# Altium integrated library Vishay Draloric Ceramic Disc Capacitor.IntLib: 519 symbols (part 3 of 8)
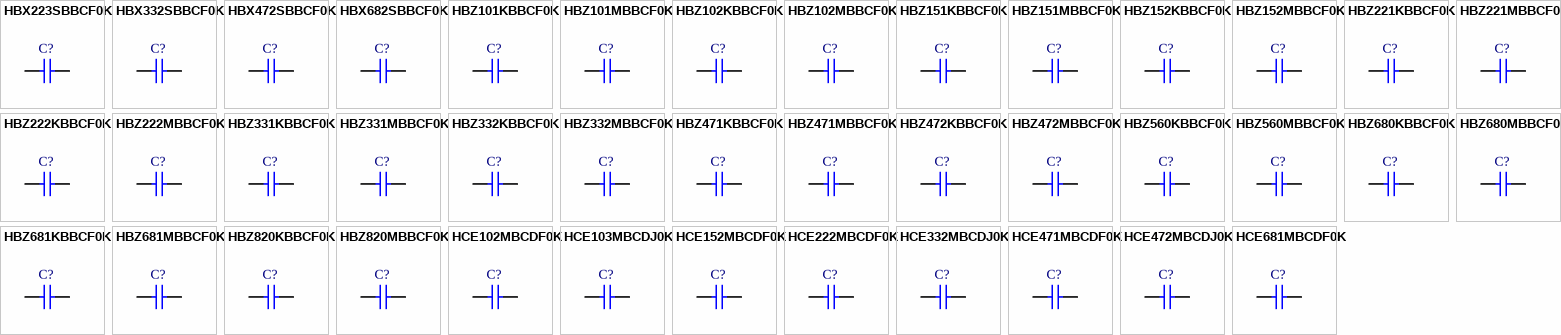
[diagram p14: symbols HBX223SBBCF0K to HCE681MBCDF0K]

## HBZ681KBBCF0K
designator C?
Ceramic High Voltage Disc Capacitor, Class 2: 680pF 2kV K 2000; Note: See Datasheet for other lead types & tolerances; Published: 17-Dec-2003; DatasheetDocument: 11-Dec-2001; PackageDocument: 2-Aug-2001; PackageReference: CAPRD7.5-9X3; Publisher: Altium Limited; ComponentLink1Description: Manufacturer Link; ComponentLink1URL: http://www.vishay.com/; ComponentLink2Description: Datasheet; ComponentLink2URL: http://www.vishay.com/docs/22161/h.pdf; Value: 680pF
footprint CAPRD7.5-9X3 (Capacitor, Ceramic, Thru-Hole, Disc; Body 9 x 3 mm (LxW max) Pin Spacing 7.5 mm (typ))
simulation model CAP (Capacitor)
signal-integrity model Cap
pins: 1, 2

## HBZ681MBBCF0K
designator C?
Ceramic High Voltage Disc Capacitor, Class 2: 680pF 2kV K 2000; Note: See Datasheet for other lead types & tolerances; Published: 17-Dec-2003; DatasheetDocument: 11-Dec-2001; PackageDocument: 2-Aug-2001; PackageReference: CAPRD7.5-9X3; Publisher: Altium Limited; ComponentLink1Description: Manufacturer Link; ComponentLink1URL: http://www.vishay.com/; ComponentLink2Description: Datasheet; ComponentLink2URL: http://www.vishay.com/docs/22161/h.pdf; Value: 680pF
footprint CAPRD7.5-9X3 (Capacitor, Ceramic, Thru-Hole, Disc; Body 9 x 3 mm (LxW max) Pin Spacing 7.5 mm (typ))
simulation model CAP (Capacitor)
signal-integrity model Cap
pins: 1, 2

## HBZ820KBBCF0K
designator C?
Ceramic High Voltage Disc Capacitor, Class 2: 82pF 2kV K 2000; Note: See Datasheet for other lead types & tolerances; Published: 17-Dec-2003; DatasheetDocument: 11-Dec-2001; PackageDocument: 2-Aug-2001; PackageReference: CAPRD7.5-7X3; Publisher: Altium Limited; ComponentLink1Description: Manufacturer Link; ComponentLink1URL: http://www.vishay.com/; ComponentLink2Description: Datasheet; ComponentLink2URL: http://www.vishay.com/docs/22161/h.pdf; Value: 82pF
footprint CAPRD7.5-7X3 (Capacitor, Ceramic, Thru-Hole, Disc; Body 7 x 3 mm (LxW max) Pin Spacing 7.5 mm (typ))
simulation model CAP (Capacitor)
signal-integrity model Cap
pins: 1, 2

## HBZ820MBBCF0K
designator C?
Ceramic High Voltage Disc Capacitor, Class 2: 82pF 2kV K 2000; Note: See Datasheet for other lead types & tolerances; Published: 17-Dec-2003; DatasheetDocument: 11-Dec-2001; PackageDocument: 2-Aug-2001; PackageReference: CAPRD7.5-7X3; Publisher: Altium Limited; ComponentLink1Description: Manufacturer Link; ComponentLink1URL: http://www.vishay.com/; ComponentLink2Description: Datasheet; ComponentLink2URL: http://www.vishay.com/docs/22161/h.pdf; Value: 82pF
footprint CAPRD7.5-7X3 (Capacitor, Ceramic, Thru-Hole, Disc; Body 7 x 3 mm (LxW max) Pin Spacing 7.5 mm (typ))
simulation model CAP (Capacitor)
signal-integrity model Cap
pins: 1, 2

## HCE102MBCDF0K
designator C?
Ceramic High Voltage Disc Capacitor, Class 2: 1000pF 3kV K 6000; Note: See Datasheet for other lead types; Value: 1nF; Published: 17-Dec-2003; DatasheetDocument: 11-Dec-2001; PackageDocument: 2-Aug-2001; PackageReference: CAPRD10-9X4; Publisher: Altium Limited; ComponentLink1Description: Manufacturer Link; ComponentLink1URL: http://www.vishay.com/; ComponentLink2Description: Datasheet; ComponentLink2URL: http://www.vishay.com/docs/22161/h.pdf
footprint CAPRD10-9X4 (Capacitor, Ceramic, Thru-Hole, Disc; Body 9 x 4 mm (LxW max) Pin Spacing 10 mm (typ))
simulation model CAP (Capacitor)
signal-integrity model Cap
pins: 1, 2

## HCE103MBCDJ0K
designator C?
Ceramic High Voltage Disc Capacitor, Class 2: 10nF 3kV K 6000; Note: See Datasheet for other lead types; Published: 17-Dec-2003; DatasheetDocument: 11-Dec-2001; PackageDocument: 2-Aug-2001; PackageReference: CAPRD10-25X4A; Publisher: Altium Limited; ComponentLink1Description: Manufacturer Link; ComponentLink1URL: http://www.vishay.com/; ComponentLink2Description: Datasheet; ComponentLink2URL: http://www.vishay.com/docs/22161/h.pdf; Value: 10nF
footprint CAPRD10-25X4A (Capacitor, Ceramic, Thru-Hole, Disc; Body 25 x 4 mm (LxW max) Pin Spacing 10 mm (typ))
simulation model CAP (Capacitor)
signal-integrity model Cap
pins: 1, 2

## HCE152MBCDF0K
designator C?
Ceramic High Voltage Disc Capacitor, Class 2: 1500pF 3kV K 6000; Note: See Datasheet for other lead types; Value: 1.5nF; Published: 17-Dec-2003; DatasheetDocument: 11-Dec-2001; PackageDocument: 2-Aug-2001; PackageReference: CAPRD10-11X4A; Publisher: Altium Limited; ComponentLink1Description: Manufacturer Link; ComponentLink1URL: http://www.vishay.com/; ComponentLink2Description: Datasheet; ComponentLink2URL: http://www.vishay.com/docs/22161/h.pdf
footprint CAPRD10-11X4A (Capacitor, Ceramic, Thru-Hole, Disc; Body 11 x 4 mm (LxW max) Pin Spacing 10 mm (typ))
simulation model CAP (Capacitor)
signal-integrity model Cap
pins: 1, 2

## HCE222MBCDF0K
designator C?
Ceramic High Voltage Disc Capacitor, Class 2: 2200pF 3kV K 6000; Note: See Datasheet for other lead types; Value: 2.2nF; Published: 17-Dec-2003; DatasheetDocument: 11-Dec-2001; PackageDocument: 2-Aug-2001; PackageReference: CAPRD10-11X4A; Publisher: Altium Limited; ComponentLink1Description: Manufacturer Link; ComponentLink1URL: http://www.vishay.com/; ComponentLink2Description: Datasheet; ComponentLink2URL: http://www.vishay.com/docs/22161/h.pdf
footprint CAPRD10-11X4A (Capacitor, Ceramic, Thru-Hole, Disc; Body 11 x 4 mm (LxW max) Pin Spacing 10 mm (typ))
simulation model CAP (Capacitor)
signal-integrity model Cap
pins: 1, 2

## HCE332MBCDJ0K
designator C?
Ceramic High Voltage Disc Capacitor, Class 2: 3300pF 3kV K 6000; Note: See Datasheet for other lead types; Value: 3.3nF; Published: 17-Dec-2003; DatasheetDocument: 11-Dec-2001; PackageDocument: 2-Aug-2001; PackageReference: CAPRD10-15X4A; Publisher: Altium Limited; ComponentLink1Description: Manufacturer Link; ComponentLink1URL: http://www.vishay.com/; ComponentLink2Description: Datasheet; ComponentLink2URL: http://www.vishay.com/docs/22161/h.pdf
footprint CAPRD10-15X4A (Capacitor, Ceramic, Thru-Hole, Disc; Body 15 x 4 mm (LxW max) Pin Spacing 10 mm (typ))
simulation model CAP (Capacitor)
signal-integrity model Cap
pins: 1, 2

## HCE471MBCDF0K
designator C?
Ceramic High Voltage Disc Capacitor, Class 2: 470pF 3kV K 6000; Note: See Datasheet for other lead types; Published: 17-Dec-2003; DatasheetDocument: 11-Dec-2001; PackageDocument: 2-Aug-2001; PackageReference: CAPRD10-7X4A; Publisher: Altium Limited; ComponentLink1Description: Manufacturer Link; ComponentLink1URL: http://www.vishay.com/; ComponentLink2Description: Datasheet; ComponentLink2URL: http://www.vishay.com/docs/22161/h.pdf; Value: 470pF
footprint CAPRD10-7X4A (Capacitor, Ceramic, Thru-Hole, Disc; Body 7 x 4 mm (LxW max) Pin Spacing 10 mm (typ))
simulation model CAP (Capacitor)
signal-integrity model Cap
pins: 1, 2

## HCE472MBCDJ0K
designator C?
Ceramic High Voltage Disc Capacitor, Class 2: 4700pF 3kV K 6000; Note: See Datasheet for other lead types; Value: 4.7nF; Published: 17-Dec-2003; DatasheetDocument: 11-Dec-2001; PackageDocument: 2-Aug-2001; PackageReference: CAPRD10-17X4A; Publisher: Altium Limited; ComponentLink1Description: Manufacturer Link; ComponentLink1URL: http://www.vishay.com/; ComponentLink2Description: Datasheet; ComponentLink2URL: http://www.vishay.com/docs/22161/h.pdf
footprint CAPRD10-17X4A (Capacitor, Ceramic, Thru-Hole, Disc; Body 17 x 4 mm (LxW max) Pin Spacing 10 mm (typ))
simulation model CAP (Capacitor)
signal-integrity model Cap
pins: 1, 2

## HCE681MBCDF0K
designator C?
Ceramic High Voltage Disc Capacitor, Class 2: 680pF 3kV K 6000; Note: See Datasheet for other lead types; Published: 17-Dec-2003; DatasheetDocument: 11-Dec-2001; PackageDocument: 2-Aug-2001; PackageReference: CAPRD10-8X4A; Publisher: Altium Limited; ComponentLink1Description: Manufacturer Link; ComponentLink1URL: http://www.vishay.com/; ComponentLink2Description: Datasheet; ComponentLink2URL: http://www.vishay.com/docs/22161/h.pdf; Value: 680pF
footprint CAPRD10-8X4A (Capacitor, Ceramic, Thru-Hole, Disc; Body 8 x 4 mm (LxW max) Pin Spacing 10 mm (typ))
simulation model CAP (Capacitor)
signal-integrity model Cap
pins: 1, 2

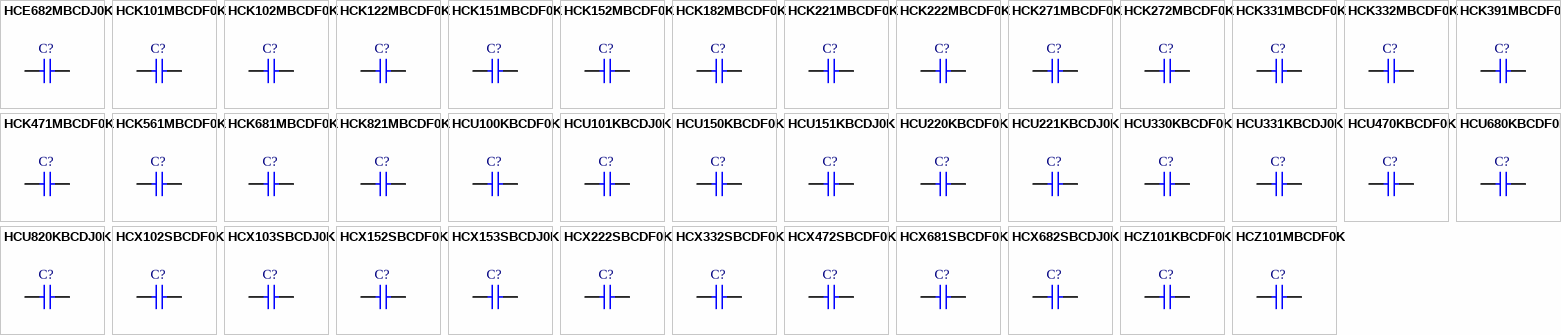
[diagram p4: symbols HCE682MBCDJ0K to HCZ101MBCDF0K]

## HCE682MBCDJ0K
designator C?
Ceramic High Voltage Disc Capacitor, Class 2: 6800pF 3kV K 6000; Note: See Datasheet for other lead types; Value: 6.8nF; Published: 17-Dec-2003; DatasheetDocument: 11-Dec-2001; PackageDocument: 2-Aug-2001; PackageReference: CAPRD10-21X4A; Publisher: Altium Limited; ComponentLink1Description: Manufacturer Link; ComponentLink1URL: http://www.vishay.com/; ComponentLink2Description: Datasheet; ComponentLink2URL: http://www.vishay.com/docs/22161/h.pdf
footprint CAPRD10-21X4A (Capacitor, Ceramic, Thru-Hole, Disc; Body 21 x 4 mm (LxW max) Pin Spacing 10 mm (typ))
simulation model CAP (Capacitor)
signal-integrity model Cap
pins: 1, 2

## HCK101MBCDF0K
designator C?
Ceramic Pulse Disc Capacitor, Class 2: 100pF 3kV K 1500; Note: See Datasheet for other lead types & tolerances; Published: 17-Dec-2003; DatasheetDocument: 6-Sep-2001; PackageDocument: 2-Aug-2001; PackageReference: CAPRD10-7X5; Publisher: Altium Limited; ComponentLink1Description: Manufacturer Link; ComponentLink1URL: http://www.vishay.com/; ComponentLink2Description: Datasheet; ComponentLink2URL: http://www.vishay.com/docs/22164/hk.pdf; Value: 100pF
footprint CAPRD10-7X5 (Capacitor, Ceramic, Thru-Hole, Disc; Body 7 x 5 mm (LxW max) Pin Spacing 10 mm (typ))
simulation model CAP (Capacitor)
signal-integrity model Cap
pins: 1, 2

## HCK102MBCDF0K
designator C?
Ceramic Pulse Disc Capacitor, Class 2: 1000pF 3kV K 1500; Note: See Datasheet for other lead types & tolerances; Value: 1nF; Published: 17-Dec-2003; DatasheetDocument: 6-Sep-2001; PackageDocument: 2-Aug-2001; PackageReference: CAPRD10-12X5; Publisher: Altium Limited; ComponentLink1Description: Manufacturer Link; ComponentLink1URL: http://www.vishay.com/; ComponentLink2Description: Datasheet; ComponentLink2URL: http://www.vishay.com/docs/22164/hk.pdf
footprint CAPRD10-12X5 (Capacitor, Ceramic, Thru-Hole, Disc; Body 12 x 5 mm (LxW max) Pin Spacing 10 mm (typ))
simulation model CAP (Capacitor)
signal-integrity model Cap
pins: 1, 2

## HCK122MBCDF0K
designator C?
Ceramic Pulse Disc Capacitor, Class 2: 1200pF 3kV K 1500; Note: See Datasheet for other lead types & tolerances; Value: 1.2nF; Published: 17-Dec-2003; DatasheetDocument: 6-Sep-2001; PackageDocument: 2-Aug-2001; PackageReference: CAPRD10-13X5; Publisher: Altium Limited; ComponentLink1Description: Manufacturer Link; ComponentLink1URL: http://www.vishay.com/; ComponentLink2Description: Datasheet; ComponentLink2URL: http://www.vishay.com/docs/22164/hk.pdf
footprint CAPRD10-13X5 (Capacitor, Ceramic, Thru-Hole, Disc; Body 13 x 5 mm (LxW max) Pin Spacing 10 mm (typ))
simulation model CAP (Capacitor)
signal-integrity model Cap
pins: 1, 2

## HCK151MBCDF0K
designator C?
Ceramic Pulse Disc Capacitor, Class 2: 150pF 3kV K 1500; Note: See Datasheet for other lead types & tolerances; Published: 17-Dec-2003; DatasheetDocument: 6-Sep-2001; PackageDocument: 2-Aug-2001; PackageReference: CAPRD10-7X5; Publisher: Altium Limited; ComponentLink1Description: Manufacturer Link; ComponentLink1URL: http://www.vishay.com/; ComponentLink2Description: Datasheet; ComponentLink2URL: http://www.vishay.com/docs/22164/hk.pdf; Value: 150pF
footprint CAPRD10-7X5 (Capacitor, Ceramic, Thru-Hole, Disc; Body 7 x 5 mm (LxW max) Pin Spacing 10 mm (typ))
simulation model CAP (Capacitor)
signal-integrity model Cap
pins: 1, 2

## HCK152MBCDF0K
designator C?
Ceramic Pulse Disc Capacitor, Class 2: 1500pF 3kV K 1500; Note: See Datasheet for other lead types & tolerances; Value: 1.5nF; Published: 17-Dec-2003; DatasheetDocument: 6-Sep-2001; PackageDocument: 2-Aug-2001; PackageReference: CAPRD10-15X5; Publisher: Altium Limited; ComponentLink1Description: Manufacturer Link; ComponentLink1URL: http://www.vishay.com/; ComponentLink2Description: Datasheet; ComponentLink2URL: http://www.vishay.com/docs/22164/hk.pdf
footprint CAPRD10-15X5 (Capacitor, Ceramic, Thru-Hole, Disc; Body 15 x 5 mm (LxW max) Pin Spacing 10 mm (typ))
simulation model CAP (Capacitor)
signal-integrity model Cap
pins: 1, 2

## HCK182MBCDF0K
designator C?
Ceramic Pulse Disc Capacitor, Class 2: 1800pF 3kV K 1500; Note: See Datasheet for other lead types & tolerances; Value: 1.8nF; Published: 17-Dec-2003; DatasheetDocument: 6-Sep-2001; PackageDocument: 2-Aug-2001; PackageReference: CAPRD10-16X5; Publisher: Altium Limited; ComponentLink1Description: Manufacturer Link; ComponentLink1URL: http://www.vishay.com/; ComponentLink2Description: Datasheet; ComponentLink2URL: http://www.vishay.com/docs/22164/hk.pdf
footprint CAPRD10-16X5 (Capacitor, Ceramic, Thru-Hole, Disc; Body 16 x 5 mm (LxW max) Pin Spacing 10 mm (typ))
simulation model CAP (Capacitor)
signal-integrity model Cap
pins: 1, 2

## HCK221MBCDF0K
designator C?
Ceramic Pulse Disc Capacitor, Class 2: 220pF 3kV K 1500; Note: See Datasheet for other lead types & tolerances; Published: 17-Dec-2003; DatasheetDocument: 6-Sep-2001; PackageDocument: 2-Aug-2001; PackageReference: CAPRD10-7X5; Publisher: Altium Limited; ComponentLink1Description: Manufacturer Link; ComponentLink1URL: http://www.vishay.com/; ComponentLink2Description: Datasheet; ComponentLink2URL: http://www.vishay.com/docs/22164/hk.pdf; Value: 220pF
footprint CAPRD10-7X5 (Capacitor, Ceramic, Thru-Hole, Disc; Body 7 x 5 mm (LxW max) Pin Spacing 10 mm (typ))
simulation model CAP (Capacitor)
signal-integrity model Cap
pins: 1, 2

## HCK222MBCDF0K
designator C?
Ceramic Pulse Disc Capacitor, Class 2: 2200pF 3kV K 1500; Note: See Datasheet for other lead types & tolerances; Value: 2.2nF; Published: 17-Dec-2003; DatasheetDocument: 6-Sep-2001; PackageDocument: 2-Aug-2001; PackageReference: CAPRD10-17X5A; Publisher: Altium Limited; ComponentLink1Description: Manufacturer Link; ComponentLink1URL: http://www.vishay.com/; ComponentLink2Description: Datasheet; ComponentLink2URL: http://www.vishay.com/docs/22164/hk.pdf
footprint CAPRD10-17X5A (Capacitor, Ceramic, Thru-Hole, Disc; Body 17 x 5 mm (LxW max) Pin Spacing 10 mm (typ))
simulation model CAP (Capacitor)
signal-integrity model Cap
pins: 1, 2

## HCK271MBCDF0K
designator C?
Ceramic Pulse Disc Capacitor, Class 2: 270pF 3kV K 1500; Note: See Datasheet for other lead types & tolerances; Published: 17-Dec-2003; DatasheetDocument: 6-Sep-2001; PackageDocument: 2-Aug-2001; PackageReference: CAPRD10-7X5; Publisher: Altium Limited; ComponentLink1Description: Manufacturer Link; ComponentLink1URL: http://www.vishay.com/; ComponentLink2Description: Datasheet; ComponentLink2URL: http://www.vishay.com/docs/22164/hk.pdf; Value: 270pF
footprint CAPRD10-7X5 (Capacitor, Ceramic, Thru-Hole, Disc; Body 7 x 5 mm (LxW max) Pin Spacing 10 mm (typ))
simulation model CAP (Capacitor)
signal-integrity model Cap
pins: 1, 2

## HCK272MBCDF0K
designator C?
Ceramic Pulse Disc Capacitor, Class 2: 2700pF 3kV K 1500; Note: See Datasheet for other lead types & tolerances; Value: 2.7nF; Published: 17-Dec-2003; DatasheetDocument: 6-Sep-2001; PackageDocument: 2-Aug-2001; PackageReference: CAPRD10-18X5; Publisher: Altium Limited; ComponentLink1Description: Manufacturer Link; ComponentLink1URL: http://www.vishay.com/; ComponentLink2Description: Datasheet; ComponentLink2URL: http://www.vishay.com/docs/22164/hk.pdf
footprint CAPRD10-18X5 (Capacitor, Ceramic, Thru-Hole, Disc; Body 18 x 5 mm (LxW max) Pin Spacing 10 mm (typ))
simulation model CAP (Capacitor)
signal-integrity model Cap
pins: 1, 2

## HCK331MBCDF0K
designator C?
Ceramic Pulse Disc Capacitor, Class 2: 330pF 3kV K 1500; Note: See Datasheet for other lead types & tolerances; Published: 17-Dec-2003; DatasheetDocument: 6-Sep-2001; PackageDocument: 2-Aug-2001; PackageReference: CAPRD10-8X5; Publisher: Altium Limited; ComponentLink1Description: Manufacturer Link; ComponentLink1URL: http://www.vishay.com/; ComponentLink2Description: Datasheet; ComponentLink2URL: http://www.vishay.com/docs/22164/hk.pdf; Value: 330pF
footprint CAPRD10-8X5 (Capacitor, Ceramic, Thru-Hole, Disc; Body 8 x 5 mm (LxW max) Pin Spacing 10 mm (typ))
simulation model CAP (Capacitor)
signal-integrity model Cap
pins: 1, 2

## HCK332MBCDF0K
designator C?
Ceramic Pulse Disc Capacitor, Class 2: 3300pF 3kV K 1500; Note: See Datasheet for other lead types & tolerances; Value: 3.3nF; Published: 17-Dec-2003; DatasheetDocument: 6-Sep-2001; PackageDocument: 2-Aug-2001; PackageReference: CAPRD10-20X5; Publisher: Altium Limited; ComponentLink1Description: Manufacturer Link; ComponentLink1URL: http://www.vishay.com/; ComponentLink2Description: Datasheet; ComponentLink2URL: http://www.vishay.com/docs/22164/hk.pdf
footprint CAPRD10-20X5 (Capacitor, Ceramic, Thru-Hole, Disc; Body 20 x 5 mm (LxW max) Pin Spacing 10 mm (typ))
simulation model CAP (Capacitor)
signal-integrity model Cap
pins: 1, 2

## HCK391MBCDF0K
designator C?
Ceramic Pulse Disc Capacitor, Class 2: 390pF 3kV K 1500; Note: See Datasheet for other lead types & tolerances; Published: 17-Dec-2003; DatasheetDocument: 6-Sep-2001; PackageDocument: 2-Aug-2001; PackageReference: CAPRD10-9X5; Publisher: Altium Limited; ComponentLink1Description: Manufacturer Link; ComponentLink1URL: http://www.vishay.com/; ComponentLink2Description: Datasheet; ComponentLink2URL: http://www.vishay.com/docs/22164/hk.pdf; Value: 390pF
footprint CAPRD10-9X5 (Capacitor, Ceramic, Thru-Hole, Disc; Body 9 x 5 mm (LxW max) Pin Spacing 10 mm (typ))
simulation model CAP (Capacitor)
signal-integrity model Cap
pins: 1, 2

## HCK471MBCDF0K
designator C?
Ceramic Pulse Disc Capacitor, Class 2: 470pF 3kV K 1500; Note: See Datasheet for other lead types & tolerances; Published: 17-Dec-2003; DatasheetDocument: 6-Sep-2001; PackageDocument: 2-Aug-2001; PackageReference: CAPRD10-9X5; Publisher: Altium Limited; ComponentLink1Description: Manufacturer Link; ComponentLink1URL: http://www.vishay.com/; ComponentLink2Description: Datasheet; ComponentLink2URL: http://www.vishay.com/docs/22164/hk.pdf; Value: 470pF
footprint CAPRD10-9X5 (Capacitor, Ceramic, Thru-Hole, Disc; Body 9 x 5 mm (LxW max) Pin Spacing 10 mm (typ))
simulation model CAP (Capacitor)
signal-integrity model Cap
pins: 1, 2

## HCK561MBCDF0K
designator C?
Ceramic Pulse Disc Capacitor, Class 2: 560pF 3kV K 1500; Note: See Datasheet for other lead types & tolerances; Published: 17-Dec-2003; DatasheetDocument: 6-Sep-2001; PackageDocument: 2-Aug-2001; PackageReference: CAPRD10-10X5; Publisher: Altium Limited; ComponentLink1Description: Manufacturer Link; ComponentLink1URL: http://www.vishay.com/; ComponentLink2Description: Datasheet; ComponentLink2URL: http://www.vishay.com/docs/22164/hk.pdf; Value: 560pF
footprint CAPRD10-10X5 (Capacitor, Ceramic, Thru-Hole, Disc; Body 10 x 5 mm (LxW max) Pin Spacing 10 mm (typ))
simulation model CAP (Capacitor)
signal-integrity model Cap
pins: 1, 2

## HCK681MBCDF0K
designator C?
Ceramic Pulse Disc Capacitor, Class 2: 680pF 3kV K 1500; Note: See Datasheet for other lead types & tolerances; Published: 17-Dec-2003; DatasheetDocument: 6-Sep-2001; PackageDocument: 2-Aug-2001; PackageReference: CAPRD10-10X5; Publisher: Altium Limited; ComponentLink1Description: Manufacturer Link; ComponentLink1URL: http://www.vishay.com/; ComponentLink2Description: Datasheet; ComponentLink2URL: http://www.vishay.com/docs/22164/hk.pdf; Value: 680pF
footprint CAPRD10-10X5 (Capacitor, Ceramic, Thru-Hole, Disc; Body 10 x 5 mm (LxW max) Pin Spacing 10 mm (typ))
simulation model CAP (Capacitor)
signal-integrity model Cap
pins: 1, 2

## HCK821MBCDF0K
designator C?
Ceramic Pulse Disc Capacitor, Class 2: 820pF 3kV K 1500; Note: See Datasheet for other lead types & tolerances; Published: 17-Dec-2003; DatasheetDocument: 6-Sep-2001; PackageDocument: 2-Aug-2001; PackageReference: CAPRD10-11X5; Publisher: Altium Limited; ComponentLink1Description: Manufacturer Link; ComponentLink1URL: http://www.vishay.com/; ComponentLink2Description: Datasheet; ComponentLink2URL: http://www.vishay.com/docs/22164/hk.pdf; Value: 820pF
footprint CAPRD10-11X5 (Capacitor, Ceramic, Thru-Hole, Disc; Body 11 x 5 mm (LxW max) Pin Spacing 10 mm (typ))
simulation model CAP (Capacitor)
signal-integrity model Cap
pins: 1, 2

## HCU100KBCDF0K
designator C?
Ceramic High Voltage Disc Capacitor, Class 1: 10pF, 3kV, N 750; Note: See Datasheet for other lead types; Published: 17-Dec-2003; DatasheetDocument: 2-Aug-2001; PackageDocument: 2-Aug-2001; PackageReference: CAPRD10-7X4B; Publisher: Altium Limited; ComponentLink1Description: Manufacturer Link; ComponentLink1URL: http://www.vishay.com/; ComponentLink2Description: Datasheet; ComponentLink2URL: http://www.vishay.com/docs/22114/hu.pdf; Value: 10pF
footprint CAPRD10-7X4B (Capacitor, Ceramic, Thru-Hole, Disc; Body 7 x 4 mm (LxW max) Pin Spacing 10 mm (typ))
simulation model CAP (Capacitor)
signal-integrity model Cap
pins: 1, 2

## HCU101KBCDJ0K
designator C?
Ceramic High Voltage Disc Capacitor, Class 1: 100pF, 3kV, N 750; Note: See Datasheet for other lead types; Published: 17-Dec-2003; DatasheetDocument: 2-Aug-2001; PackageDocument: 2-Aug-2001; PackageReference: CAPRD10-10X4.4; Publisher: Altium Limited; ComponentLink1Description: Manufacturer Link; ComponentLink1URL: http://www.vishay.com/; ComponentLink2Description: Datasheet; ComponentLink2URL: http://www.vishay.com/docs/22114/hu.pdf; Value: 100pF
footprint CAPRD10-10X4.4 (Capacitor, Ceramic, Thru-Hole, Disc; Body 10 x 4.4 mm (LxW max) Pin Spacing 10 mm (typ))
simulation model CAP (Capacitor)
signal-integrity model Cap
pins: 1, 2

## HCU150KBCDF0K
designator C?
Ceramic High Voltage Disc Capacitor, Class 1: 15pF, 3kV, N 750; Note: See Datasheet for other lead types; Published: 17-Dec-2003; DatasheetDocument: 2-Aug-2001; PackageDocument: 2-Aug-2001; PackageReference: CAPRD10-7X4B; Publisher: Altium Limited; ComponentLink1Description: Manufacturer Link; ComponentLink1URL: http://www.vishay.com/; ComponentLink2Description: Datasheet; ComponentLink2URL: http://www.vishay.com/docs/22114/hu.pdf; Value: 15pF
footprint CAPRD10-7X4B (Capacitor, Ceramic, Thru-Hole, Disc; Body 7 x 4 mm (LxW max) Pin Spacing 10 mm (typ))
simulation model CAP (Capacitor)
signal-integrity model Cap
pins: 1, 2

## HCU151KBCDJ0K
designator C?
Ceramic High Voltage Disc Capacitor, Class 1: 150pF, 3kV, N 750; Note: See Datasheet for other lead types; Published: 17-Dec-2003; DatasheetDocument: 2-Aug-2001; PackageDocument: 2-Aug-2001; PackageReference: CAPRD10-11X4.4; Publisher: Altium Limited; ComponentLink1Description: Manufacturer Link; ComponentLink1URL: http://www.vishay.com/; ComponentLink2Description: Datasheet; ComponentLink2URL: http://www.vishay.com/docs/22114/hu.pdf; Value: 150pF
footprint CAPRD10-11X4.4 (Capacitor, Ceramic, Thru-Hole, Disc; Body 11 x 4.4 mm (LxW max) Pin Spacing 10 mm (typ))
simulation model CAP (Capacitor)
signal-integrity model Cap
pins: 1, 2

## HCU220KBCDF0K
designator C?
Ceramic High Voltage Disc Capacitor, Class 1: 22pF, 3kV, N 750; Note: See Datasheet for other lead types; Published: 17-Dec-2003; DatasheetDocument: 2-Aug-2001; PackageDocument: 2-Aug-2001; PackageReference: CAPRD10-7X4B; Publisher: Altium Limited; ComponentLink1Description: Manufacturer Link; ComponentLink1URL: http://www.vishay.com/; ComponentLink2Description: Datasheet; ComponentLink2URL: http://www.vishay.com/docs/22114/hu.pdf; Value: 22pF
footprint CAPRD10-7X4B (Capacitor, Ceramic, Thru-Hole, Disc; Body 7 x 4 mm (LxW max) Pin Spacing 10 mm (typ))
simulation model CAP (Capacitor)
signal-integrity model Cap
pins: 1, 2

## HCU221KBCDJ0K
designator C?
Ceramic High Voltage Disc Capacitor, Class 1: 220pF, 3kV, N 750; Note: See Datasheet for other lead types; Published: 17-Dec-2003; DatasheetDocument: 2-Aug-2001; PackageDocument: 2-Aug-2001; PackageReference: CAPRD10-15X4.4; Publisher: Altium Limited; ComponentLink1Description: Manufacturer Link; ComponentLink1URL: http://www.vishay.com/; ComponentLink2Description: Datasheet; ComponentLink2URL: http://www.vishay.com/docs/22114/hu.pdf; Value: 220pF
footprint CAPRD10-15X4.4 (Capacitor, Ceramic, Thru-Hole, Disc; Body 15 x 4.4 mm (LxW max) Pin Spacing 10 mm (typ))
simulation model CAP (Capacitor)
signal-integrity model Cap
pins: 1, 2

## HCU330KBCDF0K
designator C?
Ceramic High Voltage Disc Capacitor, Class 1: 33pF, 3kV, N 750; Note: See Datasheet for other lead types; Published: 17-Dec-2003; DatasheetDocument: 2-Aug-2001; PackageDocument: 2-Aug-2001; PackageReference: CAPRD10-7X4B; Publisher: Altium Limited; ComponentLink1Description: Manufacturer Link; ComponentLink1URL: http://www.vishay.com/; ComponentLink2Description: Datasheet; ComponentLink2URL: http://www.vishay.com/docs/22114/hu.pdf; Value: 33pF
footprint CAPRD10-7X4B (Capacitor, Ceramic, Thru-Hole, Disc; Body 7 x 4 mm (LxW max) Pin Spacing 10 mm (typ))
simulation model CAP (Capacitor)
signal-integrity model Cap
pins: 1, 2

## HCU331KBCDJ0K
designator C?
Ceramic High Voltage Disc Capacitor, Class 1: 330pF, 3kV, N 750; Note: See Datasheet for other lead types; Published: 17-Dec-2003; DatasheetDocument: 2-Aug-2001; PackageDocument: 2-Aug-2001; PackageReference: CAPRD10-17X4.4; Publisher: Altium Limited; ComponentLink1Description: Manufacturer Link; ComponentLink1URL: http://www.vishay.com/; ComponentLink2Description: Datasheet; ComponentLink2URL: http://www.vishay.com/docs/22114/hu.pdf; Value: 330pF
footprint CAPRD10-17X4.4 (Capacitor, Ceramic, Thru-Hole, Disc; Body 17 x 4.4 mm (LxW max) Pin Spacing 10 mm (typ))
simulation model CAP (Capacitor)
signal-integrity model Cap
pins: 1, 2

## HCU470KBCDF0K
designator C?
Ceramic High Voltage Disc Capacitor, Class 1: 47pF, 3kV, N 750; Note: See Datasheet for other lead types; Published: 17-Dec-2003; DatasheetDocument: 2-Aug-2001; PackageDocument: 2-Aug-2001; PackageReference: CAPRD10-8X4B; Publisher: Altium Limited; ComponentLink1Description: Manufacturer Link; ComponentLink1URL: http://www.vishay.com/; ComponentLink2Description: Datasheet; ComponentLink2URL: http://www.vishay.com/docs/22114/hu.pdf; Value: 47pF
footprint CAPRD10-8X4B (Capacitor, Ceramic, Thru-Hole, Disc; Body 8 x 4 mm (LxW max) Pin Spacing 10 mm (typ))
simulation model CAP (Capacitor)
signal-integrity model Cap
pins: 1, 2

## HCU680KBCDF0K
designator C?
Ceramic High Voltage Disc Capacitor, Class 1: 68pF, 3kV, N 750; Note: See Datasheet for other lead types; Published: 17-Dec-2003; DatasheetDocument: 2-Aug-2001; PackageDocument: 2-Aug-2001; PackageReference: CAPRD10-9X4B; Publisher: Altium Limited; ComponentLink1Description: Manufacturer Link; ComponentLink1URL: http://www.vishay.com/; ComponentLink2Description: Datasheet; ComponentLink2URL: http://www.vishay.com/docs/22114/hu.pdf; Value: 68pF
footprint CAPRD10-9X4B (Capacitor, Ceramic, Thru-Hole, Disc; Body 9 x 4 mm (LxW max) Pin Spacing 10 mm (typ))
simulation model CAP (Capacitor)
signal-integrity model Cap
pins: 1, 2

## HCU820KBCDJ0K
designator C?
Ceramic High Voltage Disc Capacitor, Class 1: 82pF, 3kV, N 750; Note: See Datasheet for other lead types; Published: 17-Dec-2003; DatasheetDocument: 2-Aug-2001; PackageDocument: 2-Aug-2001; PackageReference: CAPRD10-10X4.4; Publisher: Altium Limited; ComponentLink1Description: Manufacturer Link; ComponentLink1URL: http://www.vishay.com/; ComponentLink2Description: Datasheet; ComponentLink2URL: http://www.vishay.com/docs/22114/hu.pdf; Value: 82pF
footprint CAPRD10-10X4.4 (Capacitor, Ceramic, Thru-Hole, Disc; Body 10 x 4.4 mm (LxW max) Pin Spacing 10 mm (typ))
simulation model CAP (Capacitor)
signal-integrity model Cap
pins: 1, 2

## HCX102SBCDF0K
designator C?
Ceramic High Voltage Disc Capacitor, Class 2: 1000pF 3kV K 10000; Note: See Datasheet for other lead types & tolerances; Value: 1nF; Published: 17-Dec-2003; DatasheetDocument: 11-Dec-2001; PackageDocument: 2-Aug-2001; PackageReference: CAPRD10-7X4; Publisher: Altium Limited; ComponentLink1Description: Manufacturer Link; ComponentLink1URL: http://www.vishay.com/; ComponentLink2Description: Datasheet; ComponentLink2URL: http://www.vishay.com/docs/22161/h.pdf
footprint CAPRD10-7X4 (Capacitor, Ceramic, Thru-Hole, Disc; Body 7 x 4 mm (LxW max) Pin Spacing 10 mm (typ))
simulation model CAP (Capacitor)
signal-integrity model Cap
pins: 1, 2

## HCX103SBCDJ0K
designator C?
Ceramic High Voltage Disc Capacitor, Class 2: 10nF 3kV K 10000; Note: See Datasheet for other lead types & tolerances; Published: 17-Dec-2003; DatasheetDocument: 11-Dec-2001; PackageDocument: 2-Aug-2001; PackageReference: CAPRD10-17X4; Publisher: Altium Limited; ComponentLink1Description: Manufacturer Link; ComponentLink1URL: http://www.vishay.com/; ComponentLink2Description: Datasheet; ComponentLink2URL: http://www.vishay.com/docs/22161/h.pdf; Value: 10nF
footprint CAPRD10-17X4 (Capacitor, Ceramic, Thru-Hole, Disc; Body 17 x 4 mm (LxW max) Pin Spacing 10 mm (typ))
simulation model CAP (Capacitor)
signal-integrity model Cap
pins: 1, 2

## HCX152SBCDF0K
designator C?
Ceramic High Voltage Disc Capacitor, Class 2: 1500pF 3kV K 10000; Note: See Datasheet for other lead types & tolerances; Value: 1.5nF; Published: 17-Dec-2003; DatasheetDocument: 11-Dec-2001; PackageDocument: 2-Aug-2001; PackageReference: CAPRD10-8X4; Publisher: Altium Limited; ComponentLink1Description: Manufacturer Link; ComponentLink1URL: http://www.vishay.com/; ComponentLink2Description: Datasheet; ComponentLink2URL: http://www.vishay.com/docs/22161/h.pdf
footprint CAPRD10-8X4 (Capacitor, Ceramic, Thru-Hole, Disc; Body 8 x 4 mm (LxW max) Pin Spacing 10 mm (typ))
simulation model CAP (Capacitor)
signal-integrity model Cap
pins: 1, 2

## HCX153SBCDJ0K
designator C?
Ceramic High Voltage Disc Capacitor, Class 2: 15nF 3kV K 10000; Note: See Datasheet for other lead types & tolerances; Published: 17-Dec-2003; DatasheetDocument: 11-Dec-2001; PackageDocument: 2-Aug-2001; PackageReference: CAPRD10-21X4; Publisher: Altium Limited; ComponentLink1Description: Manufacturer Link; ComponentLink1URL: http://www.vishay.com/; ComponentLink2Description: Datasheet; ComponentLink2URL: http://www.vishay.com/docs/22161/h.pdf; Value: 15nF
footprint CAPRD10-21X4 (Capacitor, Ceramic, Thru-Hole, Disc; Body 21 x 4 mm (LxW max) Pin Spacing 10 mm (typ))
simulation model CAP (Capacitor)
signal-integrity model Cap
pins: 1, 2

## HCX222SBCDF0K
designator C?
Ceramic High Voltage Disc Capacitor, Class 2: 2200pF 3kV K 10000; Note: See Datasheet for other lead types & tolerances; Value: 2.2nF; Published: 17-Dec-2003; DatasheetDocument: 11-Dec-2001; PackageDocument: 2-Aug-2001; PackageReference: CAPRD10-9X4A; Publisher: Altium Limited; ComponentLink1Description: Manufacturer Link; ComponentLink1URL: http://www.vishay.com/; ComponentLink2Description: Datasheet; ComponentLink2URL: http://www.vishay.com/docs/22161/h.pdf
footprint CAPRD10-9X4A (Capacitor, Ceramic, Thru-Hole, Disc; Body 9 x 4 mm (LxW max) Pin Spacing 10 mm (typ))
simulation model CAP (Capacitor)
signal-integrity model Cap
pins: 1, 2

## HCX332SBCDF0K
designator C?
Ceramic High Voltage Disc Capacitor, Class 2: 3300pF 3kV K 10000; Note: See Datasheet for other lead types & tolerances; Value: 3.3nF; Published: 17-Dec-2003; DatasheetDocument: 11-Dec-2001; PackageDocument: 2-Aug-2001; PackageReference: CAPRD10-10X4; Publisher: Altium Limited; ComponentLink1Description: Manufacturer Link; ComponentLink1URL: http://www.vishay.com/; ComponentLink2Description: Datasheet; ComponentLink2URL: http://www.vishay.com/docs/22161/h.pdf
footprint CAPRD10-10X4 (Capacitor, Ceramic, Thru-Hole, Disc; Body 10 x 4 mm (LxW max) Pin Spacing 10 mm (typ))
simulation model CAP (Capacitor)
signal-integrity model Cap
pins: 1, 2

## HCX472SBCDF0K
designator C?
Ceramic High Voltage Disc Capacitor, Class 2: 4700pF 3kV K 10000; Note: See Datasheet for other lead types & tolerances; Value: 4.7nF; Published: 17-Dec-2003; DatasheetDocument: 11-Dec-2001; PackageDocument: 2-Aug-2001; PackageReference: CAPRD10-11X4; Publisher: Altium Limited; ComponentLink1Description: Manufacturer Link; ComponentLink1URL: http://www.vishay.com/; ComponentLink2Description: Datasheet; ComponentLink2URL: http://www.vishay.com/docs/22161/h.pdf
footprint CAPRD10-11X4 (Capacitor, Ceramic, Thru-Hole, Disc; Body 11 x 4 mm (LxW max) Pin Spacing 10 mm (typ))
simulation model CAP (Capacitor)
signal-integrity model Cap
pins: 1, 2

## HCX681SBCDF0K
designator C?
Ceramic High Voltage Disc Capacitor, Class 2: 680pF 3kV K 10000; Note: See Datasheet for other lead types & tolerances; Published: 17-Dec-2003; DatasheetDocument: 11-Dec-2001; PackageDocument: 2-Aug-2001; PackageReference: CAPRD10-7X4; Publisher: Altium Limited; ComponentLink1Description: Manufacturer Link; ComponentLink1URL: http://www.vishay.com/; ComponentLink2Description: Datasheet; ComponentLink2URL: http://www.vishay.com/docs/22161/h.pdf; Value: 680pF
footprint CAPRD10-7X4 (Capacitor, Ceramic, Thru-Hole, Disc; Body 7 x 4 mm (LxW max) Pin Spacing 10 mm (typ))
simulation model CAP (Capacitor)
signal-integrity model Cap
pins: 1, 2

## HCX682SBCDJ0K
designator C?
Ceramic High Voltage Disc Capacitor, Class 2: 6800pF 3kV K 10000; Note: See Datasheet for other lead types & tolerances; Value: 6.8nF; Published: 17-Dec-2003; DatasheetDocument: 11-Dec-2001; PackageDocument: 2-Aug-2001; PackageReference: CAPRD10-15X4; Publisher: Altium Limited; ComponentLink1Description: Manufacturer Link; ComponentLink1URL: http://www.vishay.com/; ComponentLink2Description: Datasheet; ComponentLink2URL: http://www.vishay.com/docs/22161/h.pdf
footprint CAPRD10-15X4 (Capacitor, Ceramic, Thru-Hole, Disc; Body 15 x 4 mm (LxW max) Pin Spacing 10 mm (typ))
simulation model CAP (Capacitor)
signal-integrity model Cap
pins: 1, 2

## HCZ101KBCDF0K
designator C?
Ceramic High Voltage Disc Capacitor, Class 2: 100pF 3kV K 2000; Note: See Datasheet for other lead types & tolerances; Published: 17-Dec-2003; DatasheetDocument: 11-Dec-2001; PackageDocument: 2-Aug-2001; PackageReference: CAPRD10-7X4; Publisher: Altium Limited; ComponentLink1Description: Manufacturer Link; ComponentLink1URL: http://www.vishay.com/; ComponentLink2Description: Datasheet; ComponentLink2URL: http://www.vishay.com/docs/22161/h.pdf; Value: 100pF
footprint CAPRD10-7X4 (Capacitor, Ceramic, Thru-Hole, Disc; Body 7 x 4 mm (LxW max) Pin Spacing 10 mm (typ))
simulation model CAP (Capacitor)
signal-integrity model Cap
pins: 1, 2

## HCZ101MBCDF0K
designator C?
Ceramic High Voltage Disc Capacitor, Class 2: 100pF 3kV K 2000; Note: See Datasheet for other lead types & tolerances; Published: 17-Dec-2003; DatasheetDocument: 11-Dec-2001; PackageDocument: 2-Aug-2001; PackageReference: CAPRD10-7X4; Publisher: Altium Limited; ComponentLink1Description: Manufacturer Link; ComponentLink1URL: http://www.vishay.com/; ComponentLink2Description: Datasheet; ComponentLink2URL: http://www.vishay.com/docs/22161/h.pdf; Value: 100pF
footprint CAPRD10-7X4 (Capacitor, Ceramic, Thru-Hole, Disc; Body 7 x 4 mm (LxW max) Pin Spacing 10 mm (typ))
simulation model CAP (Capacitor)
signal-integrity model Cap
pins: 1, 2

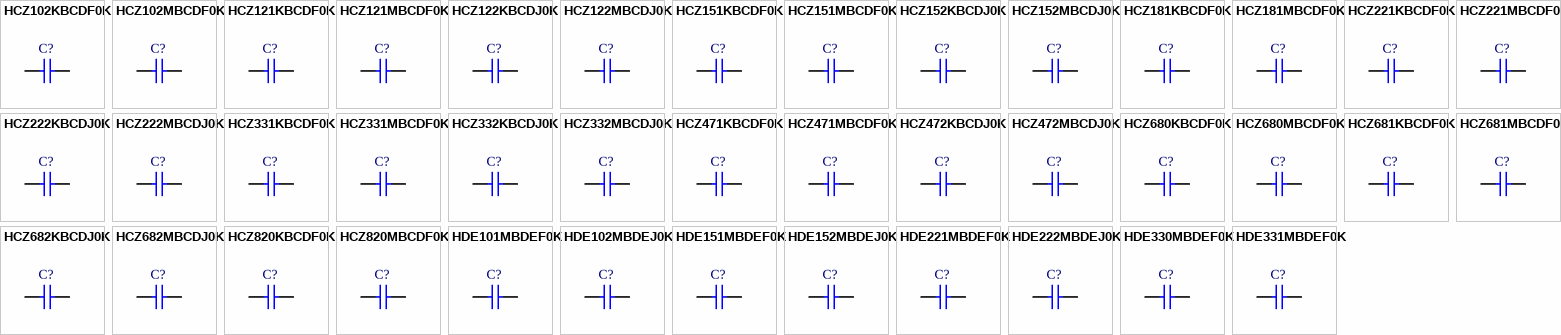
[diagram p5: symbols HCZ102KBCDF0K to HDE331MBDEF0K]

## HCZ102KBCDF0K
designator C?
Ceramic High Voltage Disc Capacitor, Class 2: 1000pF 3kV K 2000; Note: See Datasheet for other lead types & tolerances; Value: 1nF; Published: 17-Dec-2003; DatasheetDocument: 11-Dec-2001; PackageDocument: 2-Aug-2001; PackageReference: CAPRD10-11X4; Publisher: Altium Limited; ComponentLink1Description: Manufacturer Link; ComponentLink1URL: http://www.vishay.com/; ComponentLink2Description: Datasheet; ComponentLink2URL: http://www.vishay.com/docs/22161/h.pdf
footprint CAPRD10-11X4 (Capacitor, Ceramic, Thru-Hole, Disc; Body 11 x 4 mm (LxW max) Pin Spacing 10 mm (typ))
simulation model CAP (Capacitor)
signal-integrity model Cap
pins: 1, 2

## HCZ102MBCDF0K
designator C?
Ceramic High Voltage Disc Capacitor, Class 2: 1000pF 3kV K 2000; Note: See Datasheet for other lead types & tolerances; Value: 1nF; Published: 17-Dec-2003; DatasheetDocument: 11-Dec-2001; PackageDocument: 2-Aug-2001; PackageReference: CAPRD10-11X4; Publisher: Altium Limited; ComponentLink1Description: Manufacturer Link; ComponentLink1URL: http://www.vishay.com/; ComponentLink2Description: Datasheet; ComponentLink2URL: http://www.vishay.com/docs/22161/h.pdf
footprint CAPRD10-11X4 (Capacitor, Ceramic, Thru-Hole, Disc; Body 11 x 4 mm (LxW max) Pin Spacing 10 mm (typ))
simulation model CAP (Capacitor)
signal-integrity model Cap
pins: 1, 2

## HCZ121KBCDF0K
designator C?
Ceramic High Voltage Disc Capacitor, Class 2: 120pF 3kV K 2000; Note: See Datasheet for other lead types & tolerances; Published: 17-Dec-2003; DatasheetDocument: 11-Dec-2001; PackageDocument: 2-Aug-2001; PackageReference: CAPRD10-7X4; Publisher: Altium Limited; ComponentLink1Description: Manufacturer Link; ComponentLink1URL: http://www.vishay.com/; ComponentLink2Description: Datasheet; ComponentLink2URL: http://www.vishay.com/docs/22161/h.pdf; Value: 120pF
footprint CAPRD10-7X4 (Capacitor, Ceramic, Thru-Hole, Disc; Body 7 x 4 mm (LxW max) Pin Spacing 10 mm (typ))
simulation model CAP (Capacitor)
signal-integrity model Cap
pins: 1, 2

## HCZ121MBCDF0K
designator C?
Ceramic High Voltage Disc Capacitor, Class 2: 120pF 3kV K 2000; Note: See Datasheet for other lead types & tolerances; Published: 17-Dec-2003; DatasheetDocument: 11-Dec-2001; PackageDocument: 2-Aug-2001; PackageReference: CAPRD10-7X4; Publisher: Altium Limited; ComponentLink1Description: Manufacturer Link; ComponentLink1URL: http://www.vishay.com/; ComponentLink2Description: Datasheet; ComponentLink2URL: http://www.vishay.com/docs/22161/h.pdf; Value: 120pF
footprint CAPRD10-7X4 (Capacitor, Ceramic, Thru-Hole, Disc; Body 7 x 4 mm (LxW max) Pin Spacing 10 mm (typ))
simulation model CAP (Capacitor)
signal-integrity model Cap
pins: 1, 2

## HCZ122KBCDJ0K
designator C?
Ceramic High Voltage Disc Capacitor, Class 2: 1200pF 3kV K 2000; Note: See Datasheet for other lead types & tolerances; Value: 1.2nF; Published: 17-Dec-2003; DatasheetDocument: 11-Dec-2001; PackageDocument: 2-Aug-2001; PackageReference: CAPRD10-15X4; Publisher: Altium Limited; ComponentLink1Description: Manufacturer Link; ComponentLink1URL: http://www.vishay.com/; ComponentLink2Description: Datasheet; ComponentLink2URL: http://www.vishay.com/docs/22161/h.pdf
footprint CAPRD10-15X4 (Capacitor, Ceramic, Thru-Hole, Disc; Body 15 x 4 mm (LxW max) Pin Spacing 10 mm (typ))
simulation model CAP (Capacitor)
signal-integrity model Cap
pins: 1, 2

## HCZ122MBCDJ0K
designator C?
Ceramic High Voltage Disc Capacitor, Class 2: 1200pF 3kV K 2000; Note: See Datasheet for other lead types & tolerances; Value: 1.2nF; Published: 17-Dec-2003; DatasheetDocument: 11-Dec-2001; PackageDocument: 2-Aug-2001; PackageReference: CAPRD10-15X4; Publisher: Altium Limited; ComponentLink1Description: Manufacturer Link; ComponentLink1URL: http://www.vishay.com/; ComponentLink2Description: Datasheet; ComponentLink2URL: http://www.vishay.com/docs/22161/h.pdf
footprint CAPRD10-15X4 (Capacitor, Ceramic, Thru-Hole, Disc; Body 15 x 4 mm (LxW max) Pin Spacing 10 mm (typ))
simulation model CAP (Capacitor)
signal-integrity model Cap
pins: 1, 2

## HCZ151KBCDF0K
designator C?
Ceramic High Voltage Disc Capacitor, Class 2: 150pF 3kV K 2000; Note: See Datasheet for other lead types & tolerances; Published: 17-Dec-2003; DatasheetDocument: 11-Dec-2001; PackageDocument: 2-Aug-2001; PackageReference: CAPRD10-7X4; Publisher: Altium Limited; ComponentLink1Description: Manufacturer Link; ComponentLink1URL: http://www.vishay.com/; ComponentLink2Description: Datasheet; ComponentLink2URL: http://www.vishay.com/docs/22161/h.pdf; Value: 150pF
footprint CAPRD10-7X4 (Capacitor, Ceramic, Thru-Hole, Disc; Body 7 x 4 mm (LxW max) Pin Spacing 10 mm (typ))
simulation model CAP (Capacitor)
signal-integrity model Cap
pins: 1, 2

## HCZ151MBCDF0K
designator C?
Ceramic High Voltage Disc Capacitor, Class 2: 150pF 3kV K 2000; Note: See Datasheet for other lead types & tolerances; Published: 17-Dec-2003; DatasheetDocument: 11-Dec-2001; PackageDocument: 2-Aug-2001; PackageReference: CAPRD10-7X4; Publisher: Altium Limited; ComponentLink1Description: Manufacturer Link; ComponentLink1URL: http://www.vishay.com/; ComponentLink2Description: Datasheet; ComponentLink2URL: http://www.vishay.com/docs/22161/h.pdf; Value: 150pF
footprint CAPRD10-7X4 (Capacitor, Ceramic, Thru-Hole, Disc; Body 7 x 4 mm (LxW max) Pin Spacing 10 mm (typ))
simulation model CAP (Capacitor)
signal-integrity model Cap
pins: 1, 2

## HCZ152KBCDJ0K
designator C?
Ceramic High Voltage Disc Capacitor, Class 2: 1500pF 3kV K 2000; Note: See Datasheet for other lead types & tolerances; Value: 1.5nF; Published: 17-Dec-2003; DatasheetDocument: 11-Dec-2001; PackageDocument: 2-Aug-2001; PackageReference: CAPRD10-15X4; Publisher: Altium Limited; ComponentLink1Description: Manufacturer Link; ComponentLink1URL: http://www.vishay.com/; ComponentLink2Description: Datasheet; ComponentLink2URL: http://www.vishay.com/docs/22161/h.pdf
footprint CAPRD10-15X4 (Capacitor, Ceramic, Thru-Hole, Disc; Body 15 x 4 mm (LxW max) Pin Spacing 10 mm (typ))
simulation model CAP (Capacitor)
signal-integrity model Cap
pins: 1, 2

## HCZ152MBCDJ0K
designator C?
Ceramic High Voltage Disc Capacitor, Class 2: 1500pF 3kV K 2000; Note: See Datasheet for other lead types & tolerances; Value: 1.5nF; Published: 17-Dec-2003; DatasheetDocument: 11-Dec-2001; PackageDocument: 2-Aug-2001; PackageReference: CAPRD10-15X4; Publisher: Altium Limited; ComponentLink1Description: Manufacturer Link; ComponentLink1URL: http://www.vishay.com/; ComponentLink2Description: Datasheet; ComponentLink2URL: http://www.vishay.com/docs/22161/h.pdf
footprint CAPRD10-15X4 (Capacitor, Ceramic, Thru-Hole, Disc; Body 15 x 4 mm (LxW max) Pin Spacing 10 mm (typ))
simulation model CAP (Capacitor)
signal-integrity model Cap
pins: 1, 2

## HCZ181KBCDF0K
designator C?
Ceramic High Voltage Disc Capacitor, Class 2: 180pF 3kV K 2000; Note: See Datasheet for other lead types & tolerances; Published: 17-Dec-2003; DatasheetDocument: 11-Dec-2001; PackageDocument: 2-Aug-2001; PackageReference: CAPRD10-8X4; Publisher: Altium Limited; ComponentLink1Description: Manufacturer Link; ComponentLink1URL: http://www.vishay.com/; ComponentLink2Description: Datasheet; ComponentLink2URL: http://www.vishay.com/docs/22161/h.pdf; Value: 180pF
footprint CAPRD10-8X4 (Capacitor, Ceramic, Thru-Hole, Disc; Body 8 x 4 mm (LxW max) Pin Spacing 10 mm (typ))
simulation model CAP (Capacitor)
signal-integrity model Cap
pins: 1, 2

## HCZ181MBCDF0K
designator C?
Ceramic High Voltage Disc Capacitor, Class 2: 180pF 3kV K 2000; Note: See Datasheet for other lead types & tolerances; Published: 17-Dec-2003; DatasheetDocument: 11-Dec-2001; PackageDocument: 2-Aug-2001; PackageReference: CAPRD10-8X4; Publisher: Altium Limited; ComponentLink1Description: Manufacturer Link; ComponentLink1URL: http://www.vishay.com/; ComponentLink2Description: Datasheet; ComponentLink2URL: http://www.vishay.com/docs/22161/h.pdf; Value: 180pF
footprint CAPRD10-8X4 (Capacitor, Ceramic, Thru-Hole, Disc; Body 8 x 4 mm (LxW max) Pin Spacing 10 mm (typ))
simulation model CAP (Capacitor)
signal-integrity model Cap
pins: 1, 2

## HCZ221KBCDF0K
designator C?
Ceramic High Voltage Disc Capacitor, Class 2: 220pF 3kV K 2000; Note: See Datasheet for other lead types & tolerances; Published: 17-Dec-2003; DatasheetDocument: 11-Dec-2001; PackageDocument: 2-Aug-2001; PackageReference: CAPRD10-8X4; Publisher: Altium Limited; ComponentLink1Description: Manufacturer Link; ComponentLink1URL: http://www.vishay.com/; ComponentLink2Description: Datasheet; ComponentLink2URL: http://www.vishay.com/docs/22161/h.pdf; Value: 220pF
footprint CAPRD10-8X4 (Capacitor, Ceramic, Thru-Hole, Disc; Body 8 x 4 mm (LxW max) Pin Spacing 10 mm (typ))
simulation model CAP (Capacitor)
signal-integrity model Cap
pins: 1, 2

## HCZ221MBCDF0K
designator C?
Ceramic High Voltage Disc Capacitor, Class 2: 220pF 3kV K 2000; Note: See Datasheet for other lead types & tolerances; Published: 17-Dec-2003; DatasheetDocument: 11-Dec-2001; PackageDocument: 2-Aug-2001; PackageReference: CAPRD10-8X4; Publisher: Altium Limited; ComponentLink1Description: Manufacturer Link; ComponentLink1URL: http://www.vishay.com/; ComponentLink2Description: Datasheet; ComponentLink2URL: http://www.vishay.com/docs/22161/h.pdf; Value: 220pF
footprint CAPRD10-8X4 (Capacitor, Ceramic, Thru-Hole, Disc; Body 8 x 4 mm (LxW max) Pin Spacing 10 mm (typ))
simulation model CAP (Capacitor)
signal-integrity model Cap
pins: 1, 2

## HCZ222KBCDJ0K
designator C?
Ceramic High Voltage Disc Capacitor, Class 2: 2200pF 3kV K 2000; Note: See Datasheet for other lead types & tolerances; Value: 2.2nF; Published: 17-Dec-2003; DatasheetDocument: 11-Dec-2001; PackageDocument: 2-Aug-2001; PackageReference: CAPRD10-17X4; Publisher: Altium Limited; ComponentLink1Description: Manufacturer Link; ComponentLink1URL: http://www.vishay.com/; ComponentLink2Description: Datasheet; ComponentLink2URL: http://www.vishay.com/docs/22161/h.pdf
footprint CAPRD10-17X4 (Capacitor, Ceramic, Thru-Hole, Disc; Body 17 x 4 mm (LxW max) Pin Spacing 10 mm (typ))
simulation model CAP (Capacitor)
signal-integrity model Cap
pins: 1, 2

## HCZ222MBCDJ0K
designator C?
Ceramic High Voltage Disc Capacitor, Class 2: 2200pF 3kV K 2000; Note: See Datasheet for other lead types & tolerances; Value: 2.2nF; Published: 17-Dec-2003; DatasheetDocument: 11-Dec-2001; PackageDocument: 2-Aug-2001; PackageReference: CAPRD10-17X4; Publisher: Altium Limited; ComponentLink1Description: Manufacturer Link; ComponentLink1URL: http://www.vishay.com/; ComponentLink2Description: Datasheet; ComponentLink2URL: http://www.vishay.com/docs/22161/h.pdf
footprint CAPRD10-17X4 (Capacitor, Ceramic, Thru-Hole, Disc; Body 17 x 4 mm (LxW max) Pin Spacing 10 mm (typ))
simulation model CAP (Capacitor)
signal-integrity model Cap
pins: 1, 2

## HCZ331KBCDF0K
designator C?
Ceramic High Voltage Disc Capacitor, Class 2: 330pF 3kV K 2000; Note: See Datasheet for other lead types & tolerances; Published: 17-Dec-2003; DatasheetDocument: 11-Dec-2001; PackageDocument: 2-Aug-2001; PackageReference: CAPRD10-8X4; Publisher: Altium Limited; ComponentLink1Description: Manufacturer Link; ComponentLink1URL: http://www.vishay.com/; ComponentLink2Description: Datasheet; ComponentLink2URL: http://www.vishay.com/docs/22161/h.pdf; Value: 330pF
footprint CAPRD10-8X4 (Capacitor, Ceramic, Thru-Hole, Disc; Body 8 x 4 mm (LxW max) Pin Spacing 10 mm (typ))
simulation model CAP (Capacitor)
signal-integrity model Cap
pins: 1, 2

## HCZ331MBCDF0K
designator C?
Ceramic High Voltage Disc Capacitor, Class 2: 330pF 3kV K 2000; Note: See Datasheet for other lead types & tolerances; Published: 17-Dec-2003; DatasheetDocument: 11-Dec-2001; PackageDocument: 2-Aug-2001; PackageReference: CAPRD10-8X4; Publisher: Altium Limited; ComponentLink1Description: Manufacturer Link; ComponentLink1URL: http://www.vishay.com/; ComponentLink2Description: Datasheet; ComponentLink2URL: http://www.vishay.com/docs/22161/h.pdf; Value: 330pF
footprint CAPRD10-8X4 (Capacitor, Ceramic, Thru-Hole, Disc; Body 8 x 4 mm (LxW max) Pin Spacing 10 mm (typ))
simulation model CAP (Capacitor)
signal-integrity model Cap
pins: 1, 2

## HCZ332KBCDJ0K
designator C?
Ceramic High Voltage Disc Capacitor, Class 2: 3300pF 3kV K 2000; Note: See Datasheet for other lead types & tolerances; Value: 3.3nF; Published: 17-Dec-2003; DatasheetDocument: 11-Dec-2001; PackageDocument: 2-Aug-2001; PackageReference: CAPRD10-21X4; Publisher: Altium Limited; ComponentLink1Description: Manufacturer Link; ComponentLink1URL: http://www.vishay.com/; ComponentLink2Description: Datasheet; ComponentLink2URL: http://www.vishay.com/docs/22161/h.pdf
footprint CAPRD10-21X4 (Capacitor, Ceramic, Thru-Hole, Disc; Body 21 x 4 mm (LxW max) Pin Spacing 10 mm (typ))
simulation model CAP (Capacitor)
signal-integrity model Cap
pins: 1, 2

## HCZ332MBCDJ0K
designator C?
Ceramic High Voltage Disc Capacitor, Class 2: 3300pF 3kV K 2000; Note: See Datasheet for other lead types & tolerances; Value: 3.3nF; Published: 17-Dec-2003; DatasheetDocument: 11-Dec-2001; PackageDocument: 2-Aug-2001; PackageReference: CAPRD10-21X4; Publisher: Altium Limited; ComponentLink1Description: Manufacturer Link; ComponentLink1URL: http://www.vishay.com/; ComponentLink2Description: Datasheet; ComponentLink2URL: http://www.vishay.com/docs/22161/h.pdf
footprint CAPRD10-21X4 (Capacitor, Ceramic, Thru-Hole, Disc; Body 21 x 4 mm (LxW max) Pin Spacing 10 mm (typ))
simulation model CAP (Capacitor)
signal-integrity model Cap
pins: 1, 2

## HCZ471KBCDF0K
designator C?
Ceramic High Voltage Disc Capacitor, Class 2: 470pF 3kV K 2000; Note: See Datasheet for other lead types & tolerances; Published: 17-Dec-2003; DatasheetDocument: 11-Dec-2001; PackageDocument: 2-Aug-2001; PackageReference: CAPRD10-10X4; Publisher: Altium Limited; ComponentLink1Description: Manufacturer Link; ComponentLink1URL: http://www.vishay.com/; ComponentLink2Description: Datasheet; ComponentLink2URL: http://www.vishay.com/docs/22161/h.pdf; Value: 470pF
footprint CAPRD10-10X4 (Capacitor, Ceramic, Thru-Hole, Disc; Body 10 x 4 mm (LxW max) Pin Spacing 10 mm (typ))
simulation model CAP (Capacitor)
signal-integrity model Cap
pins: 1, 2

## HCZ471MBCDF0K
designator C?
Ceramic High Voltage Disc Capacitor, Class 2: 470pF 3kV K 2000; Note: See Datasheet for other lead types & tolerances; Published: 17-Dec-2003; DatasheetDocument: 11-Dec-2001; PackageDocument: 2-Aug-2001; PackageReference: CAPRD10-10X4; Publisher: Altium Limited; ComponentLink1Description: Manufacturer Link; ComponentLink1URL: http://www.vishay.com/; ComponentLink2Description: Datasheet; ComponentLink2URL: http://www.vishay.com/docs/22161/h.pdf; Value: 470pF
footprint CAPRD10-10X4 (Capacitor, Ceramic, Thru-Hole, Disc; Body 10 x 4 mm (LxW max) Pin Spacing 10 mm (typ))
simulation model CAP (Capacitor)
signal-integrity model Cap
pins: 1, 2